# Altium schematic symbol library switch.SchLib: 2 symbols
Pins are listed as number, name and electrical type; pins without a type are passive.

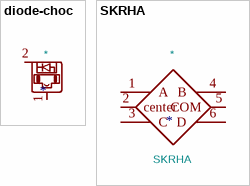
[diagram p0: symbols diode-choc to SKRHA]

## diode-choc
designator *
Value: diode-choc
pins: 1, 2

## SKRHA
designator *  value SKRHA
pins: 1 A, 2 center, 3 C, 4 B, 5 COM, 6 D